# Altium footprint library occhi.PcbLib: 17 footprints (part 1 of 2)
Each footprint in its own frame and in the unit in brackets; x right, y up, seen from the top. Pads: shape width x height; smd on the part's side, far side on the other; paste and mask are expansions set on the pad; w line width, h text height; cw(c..) or ccw(c..) is an arc to the next point about the centre after c.
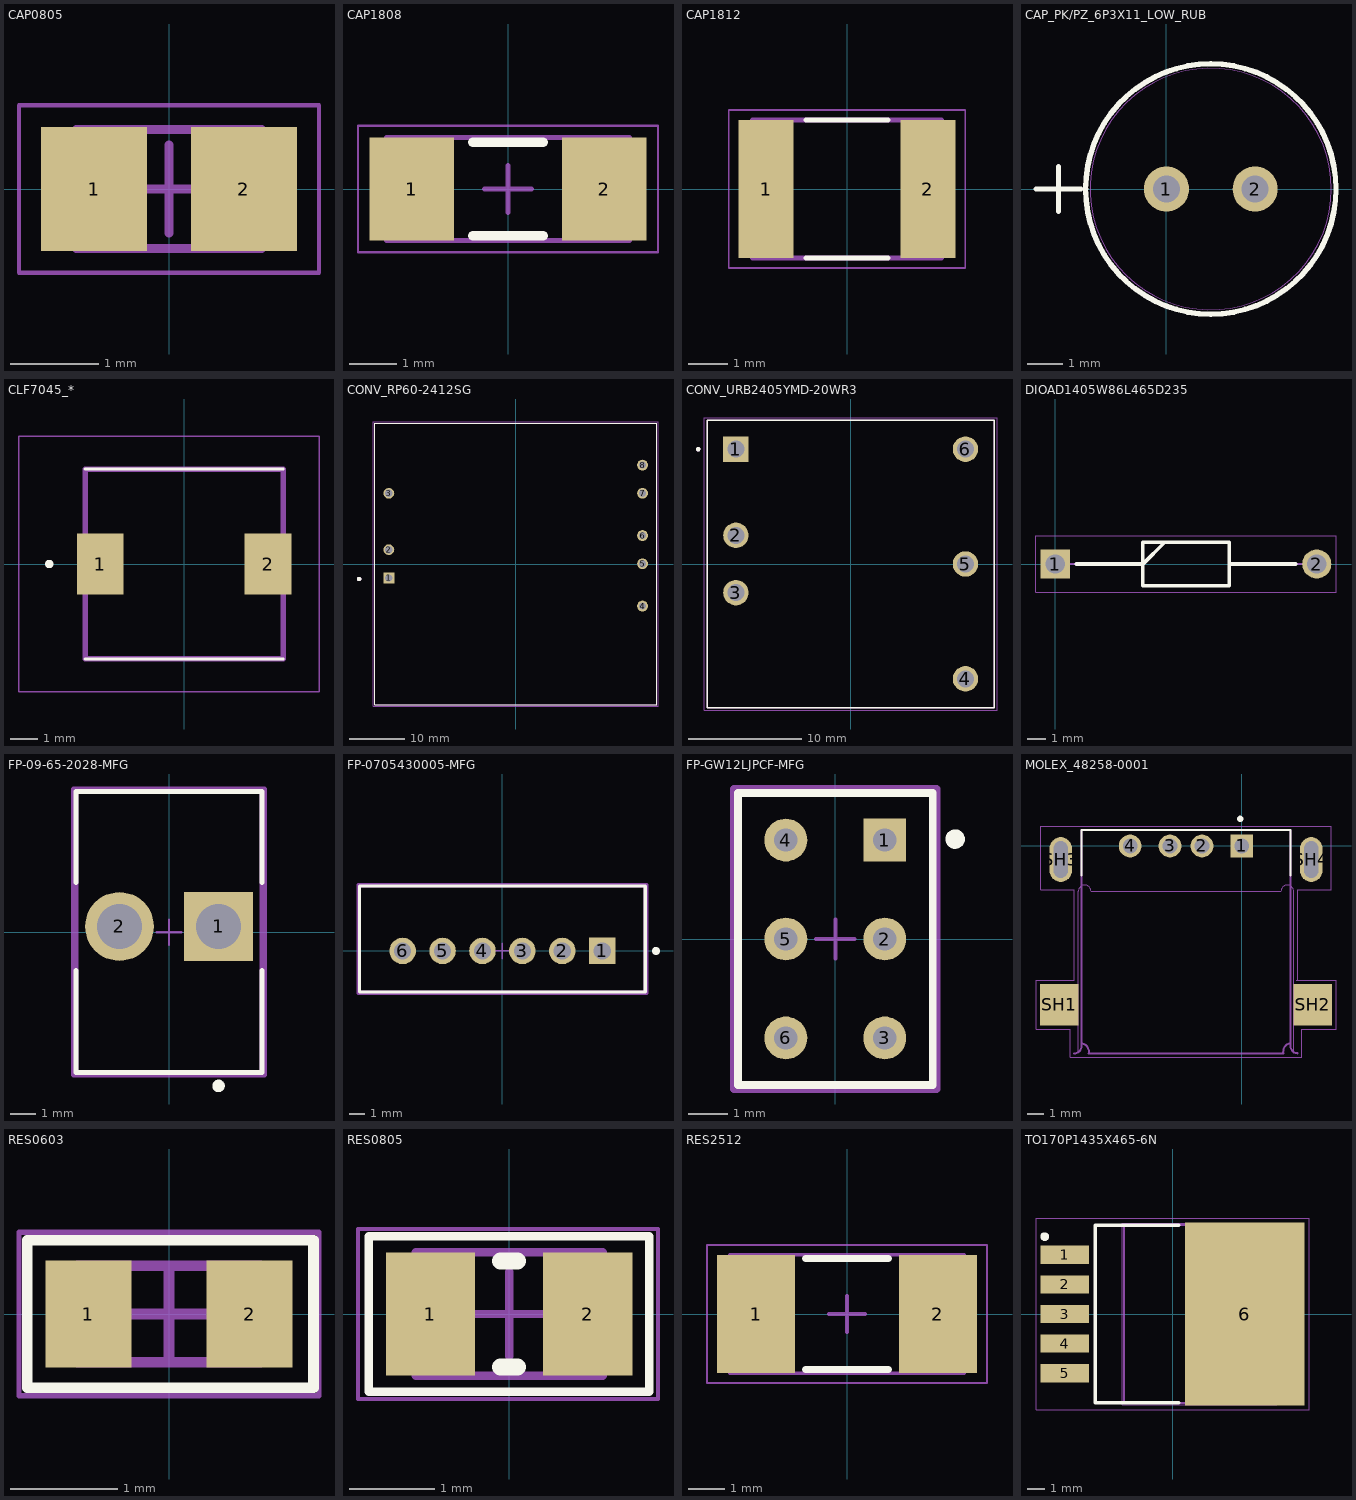
[diagram p0: the footprints below, top view; thin cyan lines are the x and y axes]

## CAP0805 [mm] "Chip Capacitor, 2-Leads, Body 2.1x1.35mm, IPC Medium Density"
height 0.75
pads (2):
  rect 1.2x1.4 smd: 1(-0.85,0) 2(0.85,0)
Mechanical 13:
  lines w0.1: -1.05,-0.675 -1.05,0.675 1.05,0.675 1.05,-0.675 -1.05,-0.675
Mechanical 15:
  lines w0.05: -1.7,-0.95 -1.7,0.95 1.7,0.95 1.7,-0.95 -1.7,-0.95
  lines w0.1: -0.5,0 0.5,0 ; 0,-0.5 0,0.5
3D body "CAPC2012X08N.step": height 0.75, standoff 0, extent -1.05,-0.675 1.05,0.675

## CAP1808 [mm] "Chip Capacitor, 2-Leads, Body 5.2x2.2mm, IPC Medium Density"
height 1.75
pads (2):
  rect 1.8x2.2 smd: 1(-2.05,0) 2(2.05,0)
Top Overlay:
  lines w0.2: -0.75,-1 0.75,-1 ; -0.75,1 0.75,1
Mechanical 13:
  lines w0.1: -2.6,-1.1 -2.6,1.1 2.6,1.1 2.6,-1.1 -2.6,-1.1
Mechanical 15:
  lines w0.05: -3.2,-1.35 -3.2,1.35 3.2,1.35 3.2,-1.35 -3.2,-1.35
  lines w0.1: -0.5,0 0.5,0 ; 0,-0.5 0,0.5
3D body "CAPC4720X18N.step": height 1.75, standoff 0, extent -2.6,-1.1 2.6,1.1

## CAP1812 [mm]
pads (2):
  rect 1.4x3.51 smd: 1(-2.057,0) 2(2.057,0)
Top Overlay:
  lines w0.127: -1.04,-1.75 1.04,-1.75 ; -1.04,1.75 1.04,1.75
Mechanical 13:
  lines w0.127: -2.4,-1.75 -2.4,1.75 2.4,1.75 2.4,-1.75 -2.4,-1.75
Mechanical 15:
  lines w0.05: -3.005,-2.005 -3.005,2.005 3.005,2.005 3.005,-2.005 -3.005,-2.005
3D body "C1812C475K5RACAUTO.STEP": height 1.8, standoff 0, extent -2.25,-1.6 2.25,1.6

## CAP_PK/PZ_6P3X11_LOW_RUB [mil]
pads (2):
  round 50 hole 30 mask+0: 1(0,0) 2(98.43,0)
Top Overlay:
  circle w6: c49.21,0 r139
  lines w6: -144.79,0 -94.79,0 ; -119.79,-25 -119.79,25
Mechanical 13:
  circle w0: c49.21,0 r134
  lines w1: -144.79,0 -94.79,0 ; -119.79,-25 -119.79,25
3D body: height 10, standoff 0, extent 0,0 10,10
3D body "CAP_PKPZ_6P3X11_LOW_RUB.step": height 492.6, standoff -160, extent -85.89,-134 183.23,134

## CLF7045_* [mm]
pads (2):
  rect 1.7x2.2 smd: 1(-3.05,0) 2(3.05,0)
Top Overlay:
  circle w0.2: c-4.9,0 r0.05
  lines w0.1: -3.6,-3.45 3.6,-3.45 ; -3.6,3.45 3.6,3.45
Mechanical 13:
  lines w0.2: -3.6,-3.45 3.6,-3.45 3.6,3.45 -3.6,3.45 -3.6,-3.45
Mechanical 15:
  lines w0.05: -6,-4.65 4.9,-4.65 4.9,4.65 -6,4.65 -6,-4.65
3D body "clf7045ni-d.step": height 5.01, standoff 0.21, extent -3.8,-3.683 3.8,3.517

## CONV_RP60-2412SG [mm]
pads (8):
  rect 1.95x1.95 hole 1.3: 1(-22.86,-2.5)
  round 1.95 hole 1.3: 2(-22.86,2.58) 3(-22.86,12.74) 4(22.86,-7.58) 5(22.86,0.04) 6(22.86,5.12) 7(22.86,12.74) 8(22.86,17.82)
Top Overlay:
  circle w0.4: c-28.22,-2.7 r0.2
  lines w0.127: -25.4,-25.4 25.4,-25.4 25.4,25.4 -25.4,25.4 -25.4,-25.4
Mechanical 13:
  circle w0.4: c-28.22,-2.7 r0.2
  lines w0.127: -25.4,-25.4 25.4,-25.4 25.4,25.4 -25.4,25.4 -25.4,-25.4
Mechanical 15:
  lines w0.05: -25.65,-25.65 25.65,-25.65 25.65,25.65 -25.65,25.65 -25.65,-25.65
3D body "RP60-2412SG--3DModel-STEP-1.STEP": height 10.2, standoff -5.6, extent -25.4,-25.527 25.4,25.273

## CONV_URB2405YMD-20WR3 [mm]
pads (6):
  rect 2.25x2.25 hole 1.5: 1(-10.16,10.16)
  round 2.25 hole 1.5: 2(-10.16,2.54) 3(-10.16,-2.54) 4(10.16,-10.16) 5(10.16,0) 6(10.16,10.16)
Top Overlay:
  circle w0.2: c-13.5,10.16 r0.1
  lines w0.127: -12.7,-12.7 12.7,-12.7 12.7,12.7 -12.7,12.7 -12.7,-12.7
Mechanical 13:
  circle w0.2: c-13.5,10.16 r0.1
  lines w0.127: -12.7,-12.7 -12.7,12.7 12.7,12.7 12.7,-12.7 -12.7,-12.7
Mechanical 15:
  lines w0.05: -12.95,-12.95 12.95,-12.95 12.95,12.95 -12.95,12.95 -12.95,-12.95
3D body "step_temp.STEP": height 11.7, standoff -4.1, extent -12.7,-12.7 12.7,12.7

## DIOAD1405W86L465D235 [mm]
pads (2):
  rect 1.575x1.575 hole 1.05: 1(0,0)
  round 1.575 hole 1.05: 2(14.1,0)
Top Overlay:
  lines w0.2: 1.138,0 4.725,0 5.9,1.175 ; 9.375,0 12.962,0 ; 4.725,-1.175 4.725,1.175 9.375,1.175 9.375,-1.175 4.725,-1.175
Mechanical 13:
  lines w0.1: 0,0 4.725,0 5.9,1.175 ; 9.375,0 14.1,0 ; 4.725,-1.175 4.725,1.175 9.375,1.175 9.375,-1.175 4.725,-1.175
Mechanical 15:
  lines w0.05: -1.038,-1.525 -1.038,1.525 15.137,1.525 15.137,-1.525 -1.038,-1.525
3D body "1N5819.stp": height 2.69, standoff -2.7, extent -0.427,-1.347 14.48,1.347

## FP-09-65-2028-MFG [mm]
pads (2):
  rect 2.75x2.75 hole 1.8 paste-1000 mask+0: 1(1.98,0.225)
  round 2.75 hole 1.8 paste-1000 mask+0: 2(-1.98,0.225)
Top Overlay:
  circle w0.25: c1.98,-6.15 r0.125
  lines w0.2: -3.73,-1.525 -3.73,-5.625 3.73,-5.625 3.73,-1.525 ; -3.73,1.975 -3.73,5.625 3.73,5.625 3.73,1.975
Mechanical 5:
  lines w0.2: -3.83,-5.725 -3.83,5.725 3.83,5.725 3.83,-5.725 -3.83,-5.725
Mechanical 13:
  lines w0.2: -3.73,-5.625 -3.73,5.625 3.73,5.625 3.73,-5.625 -3.73,-5.625
Mechanical 15:
  lines w0.2: -3.83,-5.725 -3.83,5.725 3.83,5.725 3.83,-5.725 -3.83,-5.725
Mechanical 16:
  lines w0.1: -0.5,0 0.5,0 ; 0,-0.5 0,0.5
3D body "Conn_Molex_09-65-2028_eec.STEP": height 0.25, standoff 0, extent -3.83,-5.725 3.83,5.725

## FP-0705430005-MFG [mm]
pads (6):
  rect 1.69x1.69 hole 1.09 paste-1000 mask+0: 1(6.35,0)
  round 1.69 hole 1.09 paste-1000 mask+0: 2(3.81,0) 3(1.27,0) 4(-1.27,0) 5(-3.81,0) 6(-6.35,0)
Top Overlay:
  circle w0.25: c9.775,0 r0.125
  lines w0.2: -9.09,-2.605 -9.09,4.125 9.09,4.125 9.09,-2.605 -9.09,-2.605
Mechanical 5:
  lines w0.2: -9.19,-2.705 -9.19,4.225 9.19,4.225 9.19,-2.705 -9.19,-2.705
Mechanical 13:
  lines w0.2: -9.09,-2.605 -9.09,4.125 9.09,4.125 9.09,-2.605 -9.09,-2.605
Mechanical 15:
  lines w0.2: -9.19,-2.705 -9.19,4.225 9.19,4.225 9.19,-2.705 -9.19,-2.705
Mechanical 16:
  lines w0.1: -0.5,0 0.5,0 ; 0,-0.5 0,0.5
3D body "Conn_Molex_0705430005_eec.STEP": height 0.25, standoff 0, extent -9.19,-2.705 9.19,4.225

## FP-GW12LJPCF-MFG [mm]
pads (6):
  rect 1.1x1.1 hole 0.6 paste-1000 mask+0: 1(1.27,2.54)
  round 1.1 hole 0.6 paste-1000 mask+0: 2(1.27,0) 3(1.27,-2.54) 4(-1.27,2.54) 5(-1.27,0) 6(-1.27,-2.54)
Top Overlay:
  circle w0.25: c3.075,2.565 r0.125
  lines w0.2: -2.5,-3.75 2.5,-3.75 2.5,3.75 -2.5,3.75 -2.5,-3.75
Mechanical 5:
  lines w0.2: -2.6,-3.85 2.6,-3.85 2.6,3.85 -2.6,3.85 -2.6,-3.85
Mechanical 13:
  lines w0.2: -2.5,-3.75 2.5,-3.75 2.5,3.75 -2.5,3.75 -2.5,-3.75
Mechanical 15:
  lines w0.2: -2.6,-3.85 2.6,-3.85 2.6,3.85 -2.6,3.85 -2.6,-3.85
Mechanical 16:
  lines w0.1: -0.5,0 0.5,0 ; 0,-0.5 0,0.5
3D body "Switch_NKK_GW12LJPCF_eec.STEP": height 0.25, standoff 0, extent -2.6,-3.85 2.6,3.85

## MOLEX_48258-0001 [mm]
pads (8):
  rect 1.428x1.428 hole 0.92: 1(0,0)
  round 1.428 hole 0.92: 2(-2.5,0) 3(-4.5,0) 4(-7,0)
  rect 2.4x2.6 smd: SH1(-11.45,-9.95) SH2(4.45,-9.95)
  oval 1.408x2.816 hole 0.9 slot 2.3 at 90 deg: SH3(-11.35,-0.85) SH4(4.35,-0.85)
Top Overlay:
  circle w0.2: c-0.1,1.7 r0.1
  lines w0.127: -10.05,-1.85 -10.05,1 3.05,1 3.05,-1.85
Top Solder:
  region: 2.876,-2.351 2.902,-2.353 2.928,-2.356 2.954,-2.361 2.979,-2.367 3.005,-2.374 3.029,-2.383 3.053,-2.393 3.077,-2.404 3.1,-2.417 3.122,-2.431 3.144,-2.445 3.165,-2.461 3.185,-2.478 3.204,-2.496 3.222,-2.515 3.239,-2.535 3.255,-2.556 3.269,-2.578 3.283,-2.6 3.296,-2.623 3.307,-2.647 3.317,-2.671 3.326,-2.695 3.333,-2.721 3.339,-2.746 3.344,-2.772 3.347,-2.798 3.349,-2.824 3.35,-2.85 3.35,-13.1 -10.35,-13.1 -10.35,-2.85 -10.349,-2.824 -10.347,-2.798 -10.344,-2.772 -10.339,-2.746 -10.333,-2.721 -10.326,-2.695 -10.317,-2.671 -10.307,-2.647 -10.296,-2.623 -10.283,-2.6 -10.269,-2.578 -10.255,-2.556 -10.239,-2.535 -10.222,-2.515 -10.204,-2.496 -10.185,-2.478 -10.165,-2.461 -10.144,-2.445 -10.122,-2.431 -10.1,-2.417 -10.077,-2.404 -10.053,-2.393 -10.029,-2.383 -10.005,-2.374 -9.979,-2.367 -9.954,-2.361 -9.928,-2.356 -9.902,-2.353 -9.876,-2.351 -9.85,-2.35 -9.824,-2.35 -9.801,-2.351 -9.778,-2.354 -9.755,-2.357 -9.732,-2.361 -9.709,-2.367 -9.687,-2.373 -9.665,-2.381 -9.644,-2.389 -9.623,-2.399 -9.602,-2.41 -9.582,-2.421 -9.562,-2.433 -9.543,-2.447 -9.525,-2.461 -9.507,-2.476 -9.49,-2.492 -9.474,-2.508 -9.459,-2.526 -9.444,-2.544 -9.43,-2.562 -9.418,-2.582 -9.406,-2.601 -9.395,-2.622 -9.385,-2.643 -9.375,-2.664 -9.367,-2.686 -9.36,-2.708 -9.354,-2.73 -9.35,-2.75 2.35,-2.75 2.354,-2.73 2.36,-2.708 2.367,-2.686 2.375,-2.664 2.385,-2.643 2.395,-2.622 2.406,-2.601 2.418,-2.582 2.43,-2.562 2.444,-2.544 2.459,-2.526 2.474,-2.508 2.49,-2.492 2.507,-2.476 2.525,-2.461 2.543,-2.447 2.562,-2.433 2.582,-2.421 2.602,-2.41 2.623,-2.399 2.644,-2.389 2.665,-2.381 2.687,-2.373 2.709,-2.367 2.732,-2.361 2.755,-2.357 2.778,-2.354 2.801,-2.351 2.824,-2.35 2.85,-2.35
Bottom Solder:
  region: 2.876,-2.351 2.902,-2.353 2.928,-2.356 2.954,-2.361 2.979,-2.367 3.005,-2.374 3.029,-2.383 3.053,-2.393 3.077,-2.404 3.1,-2.417 3.122,-2.431 3.144,-2.445 3.165,-2.461 3.185,-2.478 3.204,-2.496 3.222,-2.515 3.239,-2.535 3.255,-2.556 3.269,-2.578 3.283,-2.6 3.296,-2.623 3.307,-2.647 3.317,-2.671 3.326,-2.695 3.333,-2.721 3.339,-2.746 3.344,-2.772 3.347,-2.798 3.349,-2.824 3.35,-2.85 3.35,-13.1 -10.35,-13.1 -10.35,-2.85 -10.349,-2.824 -10.347,-2.798 -10.344,-2.772 -10.339,-2.746 -10.333,-2.721 -10.326,-2.695 -10.317,-2.671 -10.307,-2.647 -10.296,-2.623 -10.283,-2.6 -10.269,-2.578 -10.255,-2.556 -10.239,-2.535 -10.222,-2.515 -10.204,-2.496 -10.185,-2.478 -10.165,-2.461 -10.144,-2.445 -10.122,-2.431 -10.1,-2.417 -10.077,-2.404 -10.053,-2.393 -10.029,-2.383 -10.005,-2.374 -9.979,-2.367 -9.954,-2.361 -9.928,-2.356 -9.902,-2.353 -9.876,-2.351 -9.85,-2.35 -9.824,-2.35 -9.801,-2.351 -9.778,-2.354 -9.755,-2.357 -9.732,-2.361 -9.709,-2.367 -9.687,-2.373 -9.665,-2.381 -9.644,-2.389 -9.623,-2.399 -9.602,-2.41 -9.582,-2.421 -9.562,-2.433 -9.543,-2.447 -9.525,-2.461 -9.507,-2.476 -9.49,-2.492 -9.474,-2.508 -9.459,-2.526 -9.444,-2.544 -9.43,-2.562 -9.418,-2.582 -9.406,-2.601 -9.395,-2.622 -9.385,-2.643 -9.375,-2.664 -9.367,-2.686 -9.36,-2.708 -9.354,-2.73 -9.35,-2.75 2.35,-2.75 2.354,-2.73 2.36,-2.708 2.367,-2.686 2.375,-2.664 2.385,-2.643 2.395,-2.622 2.406,-2.601 2.418,-2.582 2.43,-2.562 2.444,-2.544 2.459,-2.526 2.474,-2.508 2.49,-2.492 2.507,-2.476 2.525,-2.461 2.543,-2.447 2.562,-2.433 2.582,-2.421 2.602,-2.41 2.623,-2.399 2.644,-2.389 2.665,-2.381 2.687,-2.373 2.709,-2.367 2.732,-2.361 2.755,-2.357 2.778,-2.354 2.801,-2.351 2.824,-2.35 2.85,-2.35
Mechanical 1:
  lines w0: -10.25,-13 -10.25,-2.85 cw(c-9.85,-2.85) -9.85,-2.45 cw(c-9.85,-2.85) -9.45,-2.85 2.45,-2.85 cw(c2.85,-2.85) 2.85,-2.45 cw(c2.85,-2.85) 3.25,-2.85 3.25,-13
Mechanical 13:
  lines w0.127: -10.503,-13 ccw(c-10.495,-12.555) -10.05,-12.563 ; -10.05,-12.58 -10.05,-12.56 -10.05,1 3.05,1 3.05,-12.35 3.05,-12.56 ; -9.988,-12.38 cw(c-10.105,-12.885) -9.6,-13.002 ; -9.6,-13 2.6,-13 ; 2.599,-12.997 cw(c3.15,-12.9) 3.053,-12.349 ; 3.05,-12.55 ccw(c3.49,-12.55) 3.49,-12.99
Mechanical 15:
  lines w0.05: 3.4,-8.4 5.9,-8.4 5.9,-11.5 3.75,-11.5 3.75,-13.25 -10.75,-13.25 -10.75,-11.5 -12.9,-11.5 -12.9,-8.4 -10.5,-8.4 -10.5,-2.75 -12.6,-2.75 -12.6,1.25 5.6,1.25 5.6,-2.75 3.5,-2.75 3.5,-8.401 3.401,-8.401
3D body "48258-0001.stp": height 4.41, standoff -2.49, extent -12.05,-13 5.05,1

## RES0603 [mm] "Chip Resistor, 2-Leads, Body 1.60x0.80mm (0603), IPC Low Density"
height 0.55
pads (2):
  rect 0.8x1 smd: 1(-0.75,0) 2(0.75,0)
Top Overlay:
  lines w0.1: -1.321,-0.686 1.346,-0.686 1.346,0.686 -1.321,0.686 -1.321,-0.686
Mechanical 13:
  lines w0.1: -0.85,-0.45 -0.85,0.45 0.85,0.45 0.85,-0.45 -0.85,-0.45
Mechanical 15:
  lines w0.05: -1.397,-0.762 -1.397,0.762 1.397,0.762 1.397,-0.762 -1.397,-0.762
  lines w0.1: -0.45,0 0.45,0 ; 0,-0.45 0,0.45
3D body: height 0.55, standoff 0, extent -0.6,-0.45 0.6,0.45
3D body: height 0.55, standoff 0, extent -0.85,-0.45 -0.6,0.45
3D body: height 0.55, standoff 0, extent 0.6,-0.45 0.85,0.45

## RES0805 [mm] "Chip Resistor, 2-Leads, Body 2.00x1.25mm, IPC Medium Density"
height 0.5
pads (2):
  rect 1.05x1.45 smd: 1(-0.925,0) 2(0.925,0)
Top Overlay:
  lines w0.1: -1.651,-0.914 1.651,-0.914 ; -1.651,0.914 1.651,0.914
  lines w0.102: -1.651,-0.914 -1.651,0.914 ; 1.651,-0.914 1.651,0.914
  lines w0.2: -0.1,-0.625 0.1,-0.625 ; -0.1,0.625 0.1,0.625
Mechanical 13:
  lines w0.1: -1.1,-0.725 1.1,-0.725 1.1,0.725 -1.1,0.725 -1.1,-0.725
Mechanical 15:
  lines w0.05: -1.778,-1 1.753,-1 1.753,1 -1.778,1 -1.778,-1
  lines w0.1: -0.5,0 0.5,0 ; 0,-0.5 0,0.5
3D body: height 0.5, standoff 0, extent 0.8,-0.725 1.1,0.725
3D body: height 0.5, standoff 0, extent -1.1,-0.725 -0.8,0.725
3D body: height 0.5, standoff 0, extent -0.8,-0.725 0.8,0.725

## RES2512 [mm] "Chip Resistor, 2-Leads, Body 6.45x3.25mm, IPC Medium Density"
height 0.65
pads (2):
  rect 2.15x3.25 smd: 1(-2.5,0) 2(2.5,0)
Top Overlay:
  lines w0.2: -1.143,-1.524 1.143,-1.524 ; -1.143,1.524 1.143,1.524
Mechanical 13:
  lines w0.1: -3.225,-1.625 3.225,-1.625 3.225,1.625 -3.225,1.625 -3.225,-1.625
Mechanical 15:
  lines w0.05: -3.85,-1.9 3.85,-1.9 3.85,1.9 -3.85,1.9 -3.85,-1.9
  lines w0.1: -0.5,0 0.5,0 ; 0,-0.5 0,0.5
3D body "RESC6431X07N.step": height 0.65, standoff 0, extent -3.225,-1.625 3.225,1.625

## TO170P1435X465-6N [mm]
pads (6):
  rect 2.8x1.05 smd: 1(-6.2,3.4) 2(-6.2,1.7) 3(-6.2,0) 4(-6.2,-1.7) 5(-6.2,-3.4)
  rect 6.85x10.5 smd: 6(4.15,0)
Top Overlay:
  circle w0.25: c-7.35,4.45 r0.125
  lines w0.2: 0.35,-5.1 -4.45,-5.1 -4.45,5.1 0.35,5.1
Mechanical 13:
  lines w0.1: 5.905,-5.112 6.324,-5.112 7.175,-4.17 7.175,4.17 6.324,5.112 5.905,5.112 ; 5.905,-5.112 5.905,5.112 ; 5.905,-5.112 -2.785,-5.112 -2.785,5.112 5.905,5.112
Mechanical 15:
  lines w0.001: -2.885,-5.205 -2.885,5.205 6.005,5.205 6.005,-5.205 -2.885,-5.205
  lines w0.05: -7.85,-5.5 -7.85,5.5 7.85,5.5 7.85,-5.5 -7.85,-5.5
3D body "LM2575S-12_NOPB.stp": height 4.57, standoff -0.15, extent -7.15,-5.08 7.15,5.08